# EAGLE library part RTC4543-SA (library kalshagar)
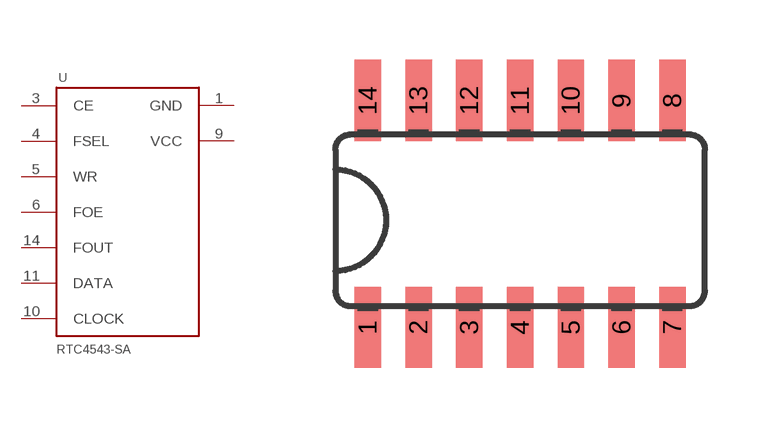
[diagram p6: symbol with the pads of SOP14; footprint SOP14]

Designator prefix -

## RTC4543-SA  [SOP14]
1  GND
3  CE
4  FSEL
5  WR
6  FOE
9  VCC
10  CLOCK
11  DATA
14  FOUT

## Footprint SOP14 (pad centres in mm)
smd 0.66 x 2.032: 1 -3.345,-2.76; 2 -2.075,-2.76; 3 -0.805,-2.76; 4 0.465,-2.76; 5 1.735,-2.76; 6 3.005,-2.76; 7 4.275,-2.76; 8 4.275,2.917; 9 3.005,2.917; 10 1.735,2.917; 11 0.465,2.917; 12 -0.805,2.917; 13 -2.075,2.917; 14 -3.345,2.917